# Altium schematic symbol library pporyzala-TI_Lighting.SchLib: 745 symbols (part 4 of 48)
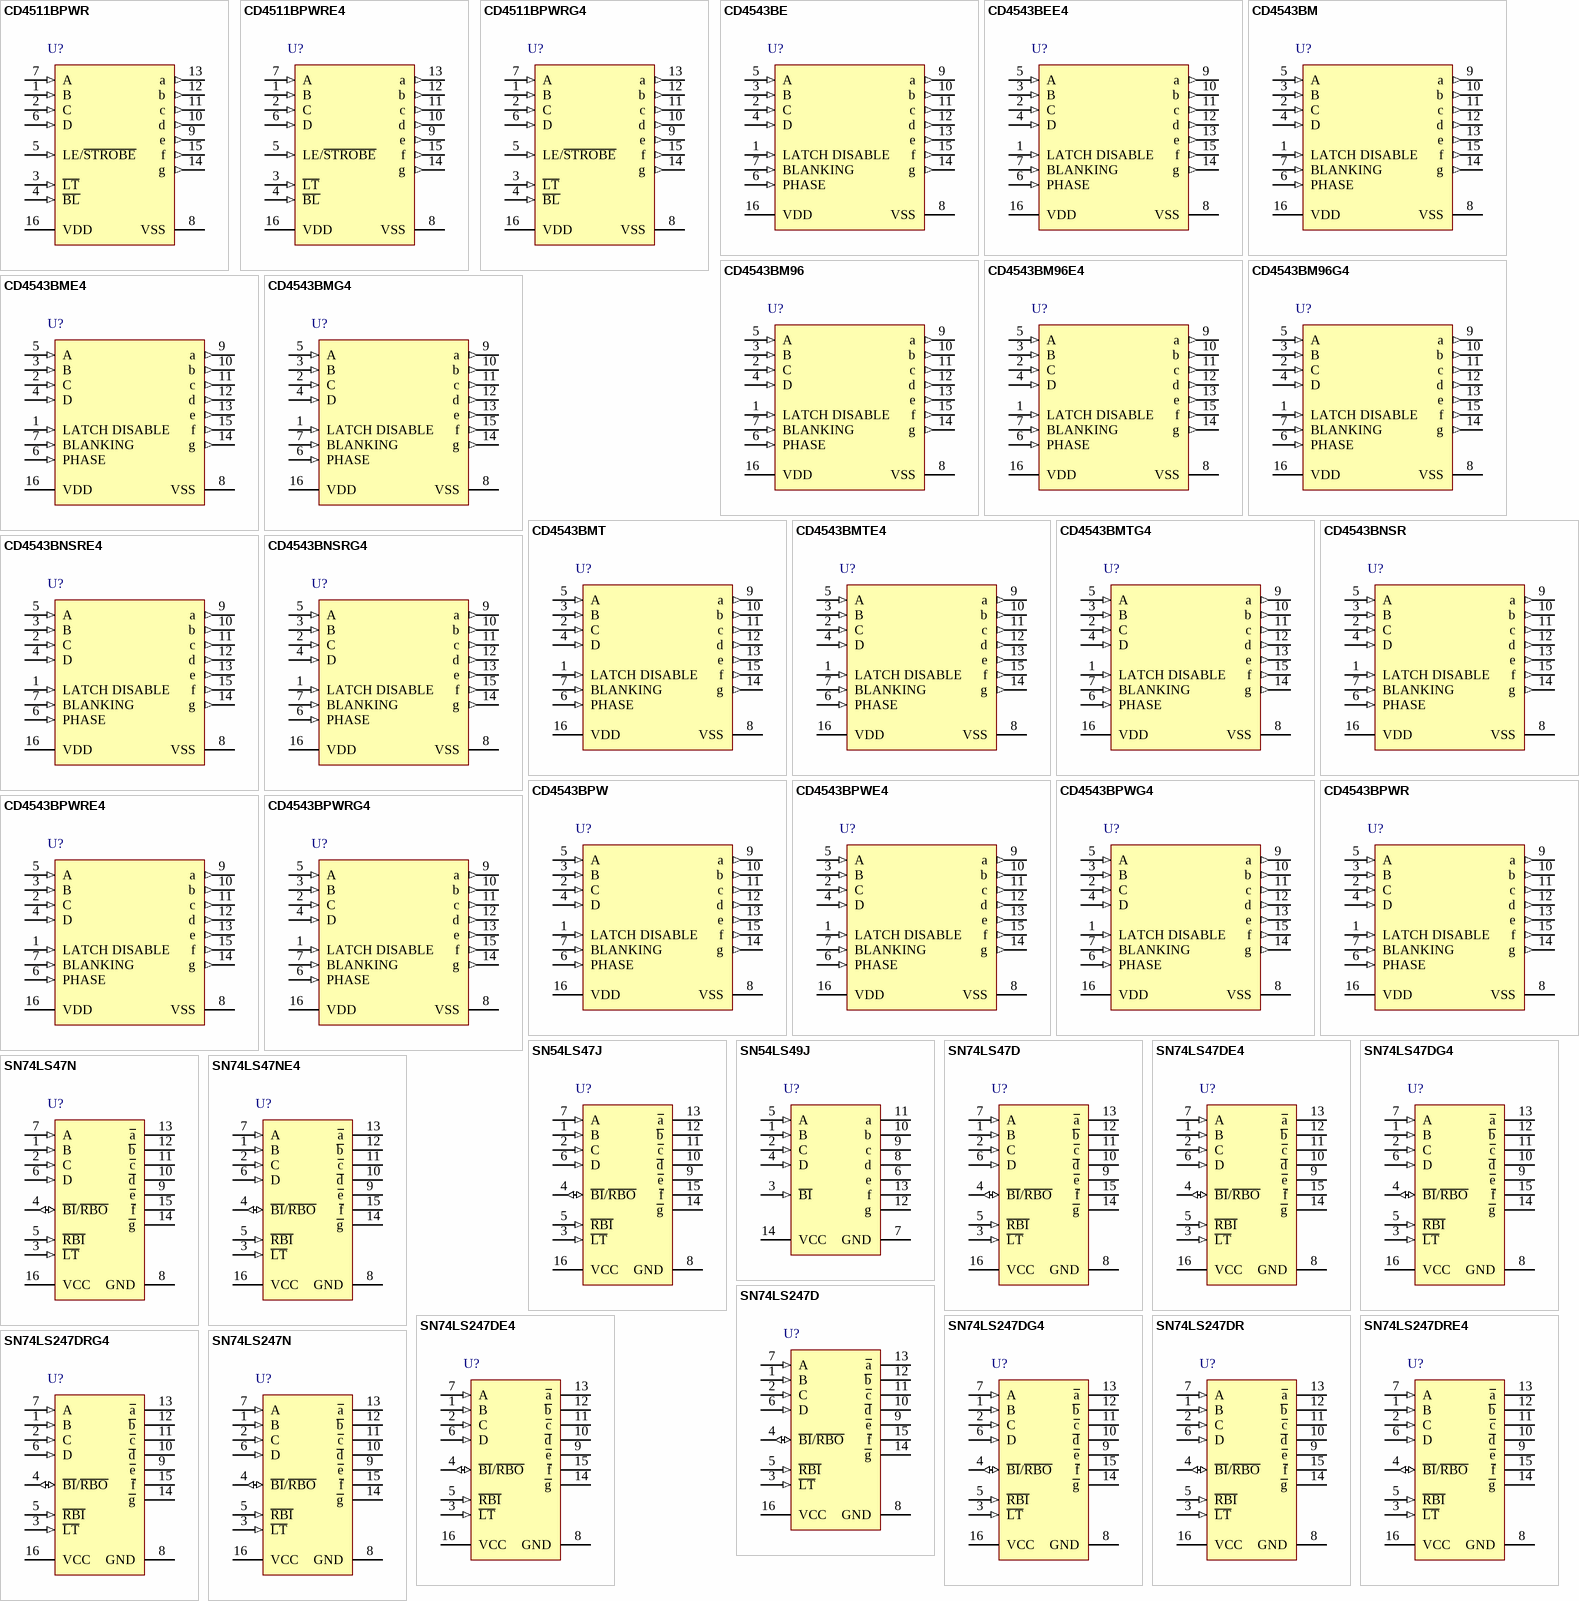
[diagram p34: symbols CD4511BPWR to SN74LS247N]

## SN74LS247DG4
designator U?
BCD-to-7-Segment Decoder / Driver, 4.75 to 5.25 V, 0 to 70 degC, 16-pin SOIC (D16), Green (RoHS & no Sb/Br); Manufacturer: Texas Instruments; PartNumber: SN74LS247DG4; Rating: Catalog; SubFamily: Discrete Segment LED Driver; Vin(Max)(V): 5.25; Vin(Min)(V): 4.75; DatasheetVersion: SDLS083; PackageVersion: 4040047-6/M; PackageReference: D16; PackageDescription: 16-Pin Plastic Small Outline, Body 9.90 x 3.90 mm, Pitch 1.27 mm; Supplier 1: Digi-Key; Supplier Part Number 1: SN74LS247DG4-ND; Supplier 2: Mouser; Supplier Part Number 2: 595-SN74LS247DG4; Eco-Plan: Green (RoHS & no Sb/Br); Mounting Technology: Surface Mount; Code_JEDEC: MS-012; ComponentLink1Description: Manufacturer URL; ComponentLink1URL: http://www.ti.com/; ComponentLink2Description: Datasheet; ComponentLink2URL: http://www.ti.com/general/docs/lit/getliterature.tsp?genericPartNumber=SN74LS247&fileType=pdf; ComponentLink3Description: Package Specification; ComponentLink3URL: http://www.ti.com/litv/pdf/mpds178g
footprint TI-D16_N (SOIC, 16-Leads, Body 9.9x3.9mm, Pitch 1.27mm, IPC Medium Density)
footprint TI-D16_L (SOIC, 16-Leads, Body 9.9x3.9mm, Pitch 1.27mm, IPC High Density)
footprint TI-D16_M (SOIC, 16-Leads, Body 9.9x3.9mm, Pitch 1.27mm, IPC Low Density)
pins: 1 B (in), 2 C (in), 3 ~{LT} (in), 4 ~{BI}/~{RBO} (io), 5 ~{RBI} (in), 6 D (in), 7 A (in), 8 GND (power), 9 ~{e} (oc), 10 ~{d} (oc), 11 ~{c} (oc), 12 ~{b} (oc), 13 ~{a} (oc), 14 ~{g} (oc), 15 ~{f} (oc), 16 VCC (power)

## SN74LS247DR
designator U?
BCD-to-7-Segment Decoder / Driver, 4.75 to 5.25 V, 0 to 70 degC, 16-pin SOIC (D16), Green (RoHS & no Sb/Br); Manufacturer: Texas Instruments; PartNumber: SN74LS247DR; Rating: Catalog; SubFamily: Discrete Segment LED Driver; Vin(Max)(V): 5.25; Vin(Min)(V): 4.75; DatasheetVersion: SDLS083; PackageVersion: 4040047-6/M; PackageReference: D16; PackageDescription: 16-Pin Plastic Small Outline, Body 9.90 x 3.90 mm, Pitch 1.27 mm; Supplier 1: Digi-Key; Supplier Part Number 1: SN74LS247DR-ND; Supplier 2: Newark; Supplier Part Number 2: 76C3754; Supplier 3: Mouser; Supplier Part Number 3: 595-SN74LS247DR; Eco-Plan: Green (RoHS & no Sb/Br); Mounting Technology: Surface Mount; Code_JEDEC: MS-012; ComponentLink1Description: Manufacturer URL; ComponentLink1URL: http://www.ti.com/; ComponentLink2Description: Datasheet; ComponentLink2URL: http://www.ti.com/general/docs/lit/getliterature.tsp?genericPartNumber=SN74LS247&fileType=pdf; ComponentLink3Description: Package Specification; ComponentLink3URL: http://www.ti.com/litv/pdf/mpds178g
footprint TI-D16_N (SOIC, 16-Leads, Body 9.9x3.9mm, Pitch 1.27mm, IPC Medium Density)
footprint TI-D16_L (SOIC, 16-Leads, Body 9.9x3.9mm, Pitch 1.27mm, IPC High Density)
footprint TI-D16_M (SOIC, 16-Leads, Body 9.9x3.9mm, Pitch 1.27mm, IPC Low Density)
pins: 1 B (in), 2 C (in), 3 ~{LT} (in), 4 ~{BI}/~{RBO} (io), 5 ~{RBI} (in), 6 D (in), 7 A (in), 8 GND (power), 9 ~{e} (oc), 10 ~{d} (oc), 11 ~{c} (oc), 12 ~{b} (oc), 13 ~{a} (oc), 14 ~{g} (oc), 15 ~{f} (oc), 16 VCC (power)

## SN74LS247DRE4
designator U?
BCD-to-7-Segment Decoder / Driver, 4.75 to 5.25 V, 0 to 70 degC, 16-pin SOIC (D16), Green (RoHS & no Sb/Br); Manufacturer: Texas Instruments; PartNumber: SN74LS247DRE4; Rating: Catalog; SubFamily: Discrete Segment LED Driver; Vin(Max)(V): 5.25; Vin(Min)(V): 4.75; DatasheetVersion: SDLS083; PackageVersion: 4040047-6/M; PackageReference: D16; PackageDescription: 16-Pin Plastic Small Outline, Body 9.90 x 3.90 mm, Pitch 1.27 mm; Supplier 1: Digi-Key; Supplier Part Number 1: SN74LS247DRE4-ND; Supplier 2: Mouser; Supplier Part Number 2: 595-SN74LS247DRE4; Eco-Plan: Green (RoHS & no Sb/Br); Mounting Technology: Surface Mount; Code_JEDEC: MS-012; ComponentLink1Description: Manufacturer URL; ComponentLink1URL: http://www.ti.com/; ComponentLink2Description: Datasheet; ComponentLink2URL: http://www.ti.com/general/docs/lit/getliterature.tsp?genericPartNumber=SN74LS247&fileType=pdf; ComponentLink3Description: Package Specification; ComponentLink3URL: http://www.ti.com/litv/pdf/mpds178g
footprint TI-D16_N (SOIC, 16-Leads, Body 9.9x3.9mm, Pitch 1.27mm, IPC Medium Density)
footprint TI-D16_L (SOIC, 16-Leads, Body 9.9x3.9mm, Pitch 1.27mm, IPC High Density)
footprint TI-D16_M (SOIC, 16-Leads, Body 9.9x3.9mm, Pitch 1.27mm, IPC Low Density)
pins: 1 B (in), 2 C (in), 3 ~{LT} (in), 4 ~{BI}/~{RBO} (io), 5 ~{RBI} (in), 6 D (in), 7 A (in), 8 GND (power), 9 ~{e} (oc), 10 ~{d} (oc), 11 ~{c} (oc), 12 ~{b} (oc), 13 ~{a} (oc), 14 ~{g} (oc), 15 ~{f} (oc), 16 VCC (power)

## SN74LS247DRG4
designator U?
BCD-to-7-Segment Decoder / Driver, 4.75 to 5.25 V, 0 to 70 degC, 16-pin SOIC (D16), Green (RoHS & no Sb/Br); Manufacturer: Texas Instruments; PartNumber: SN74LS247DRG4; Rating: Catalog; SubFamily: Discrete Segment LED Driver; Vin(Max)(V): 5.25; Vin(Min)(V): 4.75; DatasheetVersion: SDLS083; PackageVersion: 4040047-6/M; PackageReference: D16; PackageDescription: 16-Pin Plastic Small Outline, Body 9.90 x 3.90 mm, Pitch 1.27 mm; Supplier 1: Digi-Key; Supplier Part Number 1: SN74LS247DRG4-ND; Supplier 2: Mouser; Supplier Part Number 2: 595-SN74LS247DRG4; Eco-Plan: Green (RoHS & no Sb/Br); Mounting Technology: Surface Mount; Code_JEDEC: MS-012; ComponentLink1Description: Manufacturer URL; ComponentLink1URL: http://www.ti.com/; ComponentLink2Description: Datasheet; ComponentLink2URL: http://www.ti.com/general/docs/lit/getliterature.tsp?genericPartNumber=SN74LS247&fileType=pdf; ComponentLink3Description: Package Specification; ComponentLink3URL: http://www.ti.com/litv/pdf/mpds178g
footprint TI-D16_N (SOIC, 16-Leads, Body 9.9x3.9mm, Pitch 1.27mm, IPC Medium Density)
footprint TI-D16_L (SOIC, 16-Leads, Body 9.9x3.9mm, Pitch 1.27mm, IPC High Density)
footprint TI-D16_M (SOIC, 16-Leads, Body 9.9x3.9mm, Pitch 1.27mm, IPC Low Density)
pins: 1 B (in), 2 C (in), 3 ~{LT} (in), 4 ~{BI}/~{RBO} (io), 5 ~{RBI} (in), 6 D (in), 7 A (in), 8 GND (power), 9 ~{e} (oc), 10 ~{d} (oc), 11 ~{c} (oc), 12 ~{b} (oc), 13 ~{a} (oc), 14 ~{g} (oc), 15 ~{f} (oc), 16 VCC (power)

## SN74LS247N
designator U?
BCD-to-7-Segment Decoder / Driver, 4.75 to 5.25 V, 0 to 70 degC, 16-pin DIP (N16), Pb-Free (RoHS); Manufacturer: Texas Instruments; PartNumber: SN74LS247N; Rating: Catalog; SubFamily: Discrete Segment LED Driver; Vin(Max)(V): 5.25; Vin(Min)(V): 4.75; DatasheetVersion: SDLS083; PackageVersion: 4040049/E; PackageReference: N16; PackageDescription: 16-Pin Plastic In-Line, Body 19.305 x 6.35 mm, Pitch 2.54 mm; Supplier 1: Digi-Key; Supplier Part Number 1: 296-3679-5-ND; Supplier 2: Farnell; Supplier Part Number 2: 9592369; Supplier 3: Newark; Supplier Part Number 3: 72K9436; Supplier 4: Mouser; Supplier Part Number 4: 595-SN74LS247N; Eco-Plan: Pb-Free (RoHS); Mounting Technology: Through Hole; Code_JEDEC: MS-001; ComponentLink1Description: Manufacturer URL; ComponentLink1URL: http://www.ti.com/; ComponentLink2Description: Datasheet; ComponentLink2URL: http://www.ti.com/general/docs/lit/getliterature.tsp?genericPartNumber=SN74LS247&fileType=pdf; ComponentLink3Description: Package Specification; ComponentLink3URL: http://www.ti.com/litv/pdf/mpdi002c
footprint TI-N16 (DIP, 16-Leads, Body 19.305x6.35 mm, Pitch 2.54 mm)
pins: 1 B (in), 2 C (in), 3 ~{LT} (in), 4 ~{BI}/~{RBO} (io), 5 ~{RBI} (in), 6 D (in), 7 A (in), 8 GND (power), 9 ~{e} (oc), 10 ~{d} (oc), 11 ~{c} (oc), 12 ~{b} (oc), 13 ~{a} (oc), 14 ~{g} (oc), 15 ~{f} (oc), 16 VCC (power)

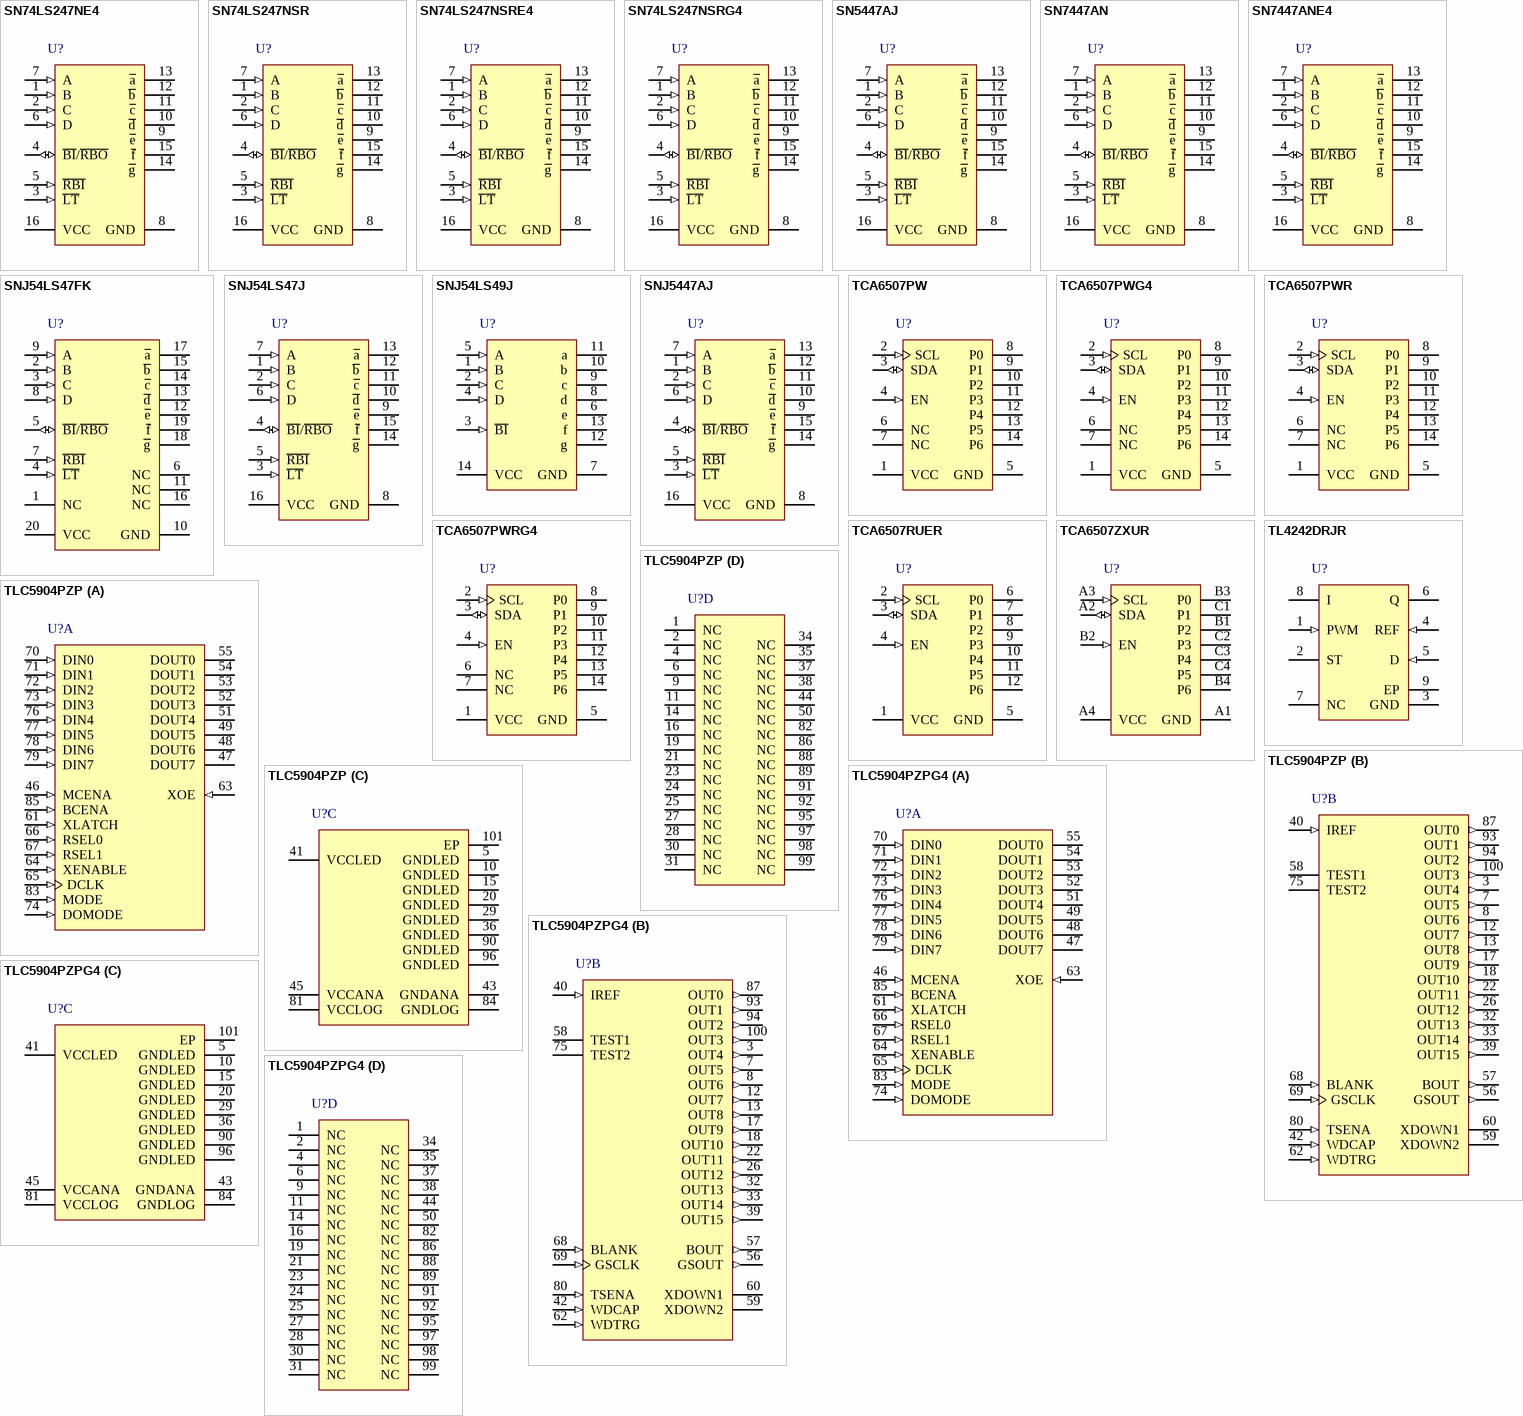
[diagram p3: symbols SN74LS247NE4 to TLC5904PZPG4]

## SN74LS247NE4
designator U?
BCD-to-7-Segment Decoder / Driver, 4.75 to 5.25 V, 0 to 70 degC, 16-pin DIP (N16), Pb-Free (RoHS); Manufacturer: Texas Instruments; PartNumber: SN74LS247NE4; Rating: Catalog; SubFamily: Discrete Segment LED Driver; Vin(Max)(V): 5.25; Vin(Min)(V): 4.75; DatasheetVersion: SDLS083; PackageVersion: 4040049/E; PackageReference: N16; PackageDescription: 16-Pin Plastic In-Line, Body 19.305 x 6.35 mm, Pitch 2.54 mm; Supplier 1: Digi-Key; Supplier Part Number 1: SN74LS247NE4-ND; Supplier 2: Newark; Supplier Part Number 2: 37K3073; Supplier 3: Mouser; Supplier Part Number 3: 595-SN74LS247NE4; Eco-Plan: Pb-Free (RoHS); Mounting Technology: Through Hole; Code_JEDEC: MS-001; ComponentLink1Description: Manufacturer URL; ComponentLink1URL: http://www.ti.com/; ComponentLink2Description: Datasheet; ComponentLink2URL: http://www.ti.com/general/docs/lit/getliterature.tsp?genericPartNumber=SN74LS247&fileType=pdf; ComponentLink3Description: Package Specification; ComponentLink3URL: http://www.ti.com/litv/pdf/mpdi002c
footprint TI-N16 (DIP, 16-Leads, Body 19.305x6.35 mm, Pitch 2.54 mm)
pins: 1 B (in), 2 C (in), 3 ~{LT} (in), 4 ~{BI}/~{RBO} (io), 5 ~{RBI} (in), 6 D (in), 7 A (in), 8 GND (power), 9 ~{e} (oc), 10 ~{d} (oc), 11 ~{c} (oc), 12 ~{b} (oc), 13 ~{a} (oc), 14 ~{g} (oc), 15 ~{f} (oc), 16 VCC (power)

## SN74LS247NSR
designator U?
BCD-to-7-Segment Decoder / Driver, 4.75 to 5.25 V, 0 to 70 degC, 16-pin SOP (NS16), Green (RoHS & no Sb/Br); Manufacturer: Texas Instruments; PartNumber: SN74LS247NSR; Rating: Catalog; SubFamily: Discrete Segment LED Driver; Vin(Max)(V): 5.25; Vin(Min)(V): 4.75; DatasheetVersion: SDLS083; PackageVersion: 4040062/C; PackageReference: NS16; PackageDescription: 16-Pin Plastic Small Outline, Body 10.20 x 5.30 mm, Pitch 1.27 mm; Supplier 1: Digi-Key; Supplier Part Number 1: 296-28943-2-ND; Supplier 2: Digi-Key; Supplier Part Number 2: 296-28943-1-ND; Supplier 3: Digi-Key; Supplier Part Number 3: 296-28943-6-ND; Supplier 4: Newark; Supplier Part Number 4: 76C3755; Supplier 5: Mouser; Supplier Part Number 5: 595-SN74LS247NSR; Eco-Plan: Green (RoHS & no Sb/Br); Mounting Technology: Surface Mount; ComponentLink1Description: Manufacturer URL; ComponentLink1URL: http://www.ti.com/; ComponentLink2Description: Datasheet; ComponentLink2URL: http://www.ti.com/general/docs/lit/getliterature.tsp?genericPartNumber=SN74LS247&fileType=pdf; ComponentLink3Description: Package Specification; ComponentLink3URL: http://www.ti.com/litv/pdf/msop002a
footprint TI-NS16_N (SOP, 16-Leads, Body 10.2x5.3mm, Pitch 1.27mm, IPC Medium Density)
footprint TI-NS16_L (SOP, 16-Leads, Body 10.2x5.3mm, Pitch 1.27mm, IPC High Density)
footprint TI-NS16_M (SOP, 16-Leads, Body 10.2x5.3mm, Pitch 1.27mm, IPC Low Density)
pins: 1 B (in), 2 C (in), 3 ~{LT} (in), 4 ~{BI}/~{RBO} (io), 5 ~{RBI} (in), 6 D (in), 7 A (in), 8 GND (power), 9 ~{e} (oc), 10 ~{d} (oc), 11 ~{c} (oc), 12 ~{b} (oc), 13 ~{a} (oc), 14 ~{g} (oc), 15 ~{f} (oc), 16 VCC (power)

## SN74LS247NSRE4
designator U?
BCD-to-7-Segment Decoder / Driver, 4.75 to 5.25 V, 0 to 70 degC, 16-pin SOP (NS16), Green (RoHS & no Sb/Br); Manufacturer: Texas Instruments; PartNumber: SN74LS247NSRE4; Rating: Catalog; SubFamily: Discrete Segment LED Driver; Vin(Max)(V): 5.25; Vin(Min)(V): 4.75; DatasheetVersion: SDLS083; PackageVersion: 4040062/C; PackageReference: NS16; PackageDescription: 16-Pin Plastic Small Outline, Body 10.20 x 5.30 mm, Pitch 1.27 mm; Supplier 1: Digi-Key; Supplier Part Number 1: SN74LS247NSRE4-ND; Supplier 2: Newark; Supplier Part Number 2: 37K3074; Supplier 3: Mouser; Supplier Part Number 3: 595-SN74LS247NSRE4; Eco-Plan: Green (RoHS & no Sb/Br); Mounting Technology: Surface Mount; ComponentLink1Description: Manufacturer URL; ComponentLink1URL: http://www.ti.com/; ComponentLink2Description: Datasheet; ComponentLink2URL: http://www.ti.com/general/docs/lit/getliterature.tsp?genericPartNumber=SN74LS247&fileType=pdf; ComponentLink3Description: Package Specification; ComponentLink3URL: http://www.ti.com/litv/pdf/msop002a
footprint TI-NS16_N (SOP, 16-Leads, Body 10.2x5.3mm, Pitch 1.27mm, IPC Medium Density)
footprint TI-NS16_L (SOP, 16-Leads, Body 10.2x5.3mm, Pitch 1.27mm, IPC High Density)
footprint TI-NS16_M (SOP, 16-Leads, Body 10.2x5.3mm, Pitch 1.27mm, IPC Low Density)
pins: 1 B (in), 2 C (in), 3 ~{LT} (in), 4 ~{BI}/~{RBO} (io), 5 ~{RBI} (in), 6 D (in), 7 A (in), 8 GND (power), 9 ~{e} (oc), 10 ~{d} (oc), 11 ~{c} (oc), 12 ~{b} (oc), 13 ~{a} (oc), 14 ~{g} (oc), 15 ~{f} (oc), 16 VCC (power)

## SN74LS247NSRG4
designator U?
BCD-to-7-Segment Decoder / Driver, 4.75 to 5.25 V, 0 to 70 degC, 16-pin SOP (NS16), Green (RoHS & no Sb/Br); Manufacturer: Texas Instruments; PartNumber: SN74LS247NSRG4; Rating: Catalog; SubFamily: Discrete Segment LED Driver; Vin(Max)(V): 5.25; Vin(Min)(V): 4.75; DatasheetVersion: SDLS083; PackageVersion: 4040062/C; PackageReference: NS16; PackageDescription: 16-Pin Plastic Small Outline, Body 10.20 x 5.30 mm, Pitch 1.27 mm; Supplier 1: Digi-Key; Supplier Part Number 1: SN74LS247NSRG4-ND; Supplier 2: Newark; Supplier Part Number 2: 46M8209; Supplier 3: Mouser; Supplier Part Number 3: 595-SN74LS247NSRG4; Eco-Plan: Green (RoHS & no Sb/Br); Mounting Technology: Surface Mount; ComponentLink1Description: Manufacturer URL; ComponentLink1URL: http://www.ti.com/; ComponentLink2Description: Datasheet; ComponentLink2URL: http://www.ti.com/general/docs/lit/getliterature.tsp?genericPartNumber=SN74LS247&fileType=pdf; ComponentLink3Description: Package Specification; ComponentLink3URL: http://www.ti.com/litv/pdf/msop002a
footprint TI-NS16_N (SOP, 16-Leads, Body 10.2x5.3mm, Pitch 1.27mm, IPC Medium Density)
footprint TI-NS16_L (SOP, 16-Leads, Body 10.2x5.3mm, Pitch 1.27mm, IPC High Density)
footprint TI-NS16_M (SOP, 16-Leads, Body 10.2x5.3mm, Pitch 1.27mm, IPC Low Density)
pins: 1 B (in), 2 C (in), 3 ~{LT} (in), 4 ~{BI}/~{RBO} (io), 5 ~{RBI} (in), 6 D (in), 7 A (in), 8 GND (power), 9 ~{e} (oc), 10 ~{d} (oc), 11 ~{c} (oc), 12 ~{b} (oc), 13 ~{a} (oc), 14 ~{g} (oc), 15 ~{f} (oc), 16 VCC (power)

## SN5447AJ
designator U?
BCD-to-7-Segment Decoder / Driver, 4.5 to 5.5 V, -55 to 125 degC, 16-pin DIP (J16); Manufacturer: Texas Instruments; PartNumber: SN5447AJ; Rating: Military; SubFamily: Discrete Segment LED Driver; Vin(Max)(V): 5.5; Vin(Min)(V): 4.5; DatasheetVersion: SDLS111; PackageVersion: 4040083/F; PackageReference: J16; PackageDescription: 16-pin, Ceramic, Glass In-Line, Row Spacing 7.62 mm, Pitch 2.54 mm; Mounting Technology: Through Hole; ComponentLink1Description: Manufacturer URL; ComponentLink1URL: http://www.ti.com/; ComponentLink2Description: Datasheet; ComponentLink2URL: http://www.ti.com/general/docs/lit/getliterature.tsp?genericPartNumber=SN5447A&fileType=pdf; ComponentLink3Description: Package Specification; ComponentLink3URL: http://www.ti.com/lit/ds/symlink/uc1543.pdf
footprint TI-J16 (DIP, 16-Leads, Body 21.34x6.92 mm, Pitch 2.54 mm)
pins: 1 B (in), 2 C (in), 3 ~{LT} (in), 4 ~{BI}/~{RBO} (io), 5 ~{RBI} (in), 6 D (in), 7 A (in), 8 GND (power), 9 ~{e} (oc), 10 ~{d} (oc), 11 ~{c} (oc), 12 ~{b} (oc), 13 ~{a} (oc), 14 ~{g} (oc), 15 ~{f} (oc), 16 VCC (power)

## SN7447AN
designator U?
BCD-to-7-Segment Decoder / Driver, 4.75 to 5.25 V, 0 to 70 degC, 16-pin DIP (N16), Pb-Free (RoHS); Manufacturer: Texas Instruments; PartNumber: SN7447AN; SubFamily: Discrete Segment LED Driver; Vin(Max)(V): 5.25; Vin(Min)(V): 4.75; DatasheetVersion: SDLS111; PackageVersion: 4040049/E; PackageReference: N16; PackageDescription: 16-Pin Plastic In-Line, Body 19.305 x 6.35 mm, Pitch 2.54 mm; Supplier 1: Digi-Key; Supplier Part Number 1: 296-33612-5-ND; Supplier 2: Farnell; Supplier Part Number 2: 9590080; Supplier 3: Newark; Supplier Part Number 3: 60K6914; Supplier 4: Mouser; Supplier Part Number 4: 595-SN7447AN; Eco-Plan: Pb-Free (RoHS); Mounting Technology: Through Hole; Code_JEDEC: MS-001; ComponentLink1Description: Manufacturer URL; ComponentLink1URL: http://www.ti.com/; ComponentLink2Description: Datasheet; ComponentLink2URL: http://www.ti.com/general/docs/lit/getliterature.tsp?genericPartNumber=SN7447A&fileType=pdf; ComponentLink3Description: Package Specification; ComponentLink3URL: http://www.ti.com/litv/pdf/mpdi002c
footprint TI-N16 (DIP, 16-Leads, Body 19.305x6.35 mm, Pitch 2.54 mm)
pins: 1 B (in), 2 C (in), 3 ~{LT} (in), 4 ~{BI}/~{RBO} (io), 5 ~{RBI} (in), 6 D (in), 7 A (in), 8 GND (power), 9 ~{e} (oc), 10 ~{d} (oc), 11 ~{c} (oc), 12 ~{b} (oc), 13 ~{a} (oc), 14 ~{g} (oc), 15 ~{f} (oc), 16 VCC (power)

## SN7447ANE4
designator U?
BCD-to-7-Segment Decoder / Driver, 4.75 to 5.25 V, 0 to 70 degC, 16-pin DIP (N16), Pb-Free (RoHS); Manufacturer: Texas Instruments; PartNumber: SN7447ANE4; SubFamily: Discrete Segment LED Driver; Vin(Max)(V): 5.25; Vin(Min)(V): 4.75; DatasheetVersion: SDLS111; PackageVersion: 4040049/E; PackageReference: N16; PackageDescription: 16-Pin Plastic In-Line, Body 19.305 x 6.35 mm, Pitch 2.54 mm; Supplier 1: Digi-Key; Supplier Part Number 1: SN7447ANE4-ND; Supplier 2: Newark; Supplier Part Number 2: 37K3913; Supplier 3: Mouser; Supplier Part Number 3: 595-SN7447ANE4; Eco-Plan: Pb-Free (RoHS); Mounting Technology: Through Hole; Code_JEDEC: MS-001; ComponentLink1Description: Manufacturer URL; ComponentLink1URL: http://www.ti.com/; ComponentLink2Description: Datasheet; ComponentLink2URL: http://www.ti.com/general/docs/lit/getliterature.tsp?genericPartNumber=SN7447A&fileType=pdf; ComponentLink3Description: Package Specification; ComponentLink3URL: http://www.ti.com/litv/pdf/mpdi002c
footprint TI-N16 (DIP, 16-Leads, Body 19.305x6.35 mm, Pitch 2.54 mm)
pins: 1 B (in), 2 C (in), 3 ~{LT} (in), 4 ~{BI}/~{RBO} (io), 5 ~{RBI} (in), 6 D (in), 7 A (in), 8 GND (power), 9 ~{e} (oc), 10 ~{d} (oc), 11 ~{c} (oc), 12 ~{b} (oc), 13 ~{a} (oc), 14 ~{g} (oc), 15 ~{f} (oc), 16 VCC (power)

## SNJ54LS47FK
designator U?
BCD-to-7-Segment Decoder / Driver, 4.5 to 5.5 V, -55 to 125 degC, 20-pin LCC (FK20); Manufacturer: Texas Instruments; PartNumber: SNJ54LS47FK; Rating: Military; SubFamily: Discrete Segment LED Driver; Vin(Max)(V): 5.5; Vin(Min)(V): 4.5; DatasheetVersion: SDLS111; PackageVersion: 4040140/D; PackageReference: FK20; PackageDescription: 20-Pin Ceramic, Metal Chip Carrier, Body 8.89 x 8.89 mm, Pitch 1.27 mm; Mounting Technology: Surface Mount; Code_JEDEC: MS-004; ComponentLink1Description: Manufacturer URL; ComponentLink1URL: http://www.ti.com/; ComponentLink2Description: Datasheet; ComponentLink2URL: http://www.ti.com/general/docs/lit/getliterature.tsp?genericPartNumber=SN54LS47&fileType=pdf; ComponentLink3Description: Package Specification; ComponentLink3URL: http://www.ti.com/litv/pdf/mlcc006d
footprint TI-FK20_N (Leadless Chip Carrier, 20-Leads, Body 8.9x8.9mm, Pitch 1.27mm, IPC Medium Density)
footprint TI-FK20_L (Leadless Chip Carrier, 20-Leads, Body 8.9x8.9mm, Pitch 1.27mm, IPC High Density)
footprint TI-FK20_M (Leadless Chip Carrier, 20-Leads, Body 8.9x8.9mm, Pitch 1.27mm, IPC Low Density)
pins: 1 NC, 2 B (in), 3 C (in), 4 ~{LT} (in), 5 ~{BI}/~{RBO} (io), 6 NC, 7 ~{RBI} (in), 8 D (in), 9 A (in), 10 GND (power), 11 NC, 12 ~{e} (oc), 13 ~{d} (oc), 14 ~{c} (oc), 15 ~{b} (oc), 16 NC, 17 ~{a} (oc), 18 ~{g} (oc), 19 ~{f} (oc), 20 VCC (power)

## SNJ54LS47J
designator U?
BCD-to-7-Segment Decoder / Driver, 4.5 to 5.5 V, -55 to 125 degC, 16-pin DIP (J16); Manufacturer: Texas Instruments; PartNumber: SNJ54LS47J; Rating: Military; SubFamily: Discrete Segment LED Driver; Vin(Max)(V): 5.5; Vin(Min)(V): 4.5; DatasheetVersion: SDLS111; PackageVersion: 4040083/F; PackageReference: J16; PackageDescription: 16-pin, Ceramic, Glass In-Line, Row Spacing 7.62 mm, Pitch 2.54 mm; Mounting Technology: Through Hole; ComponentLink1Description: Manufacturer URL; ComponentLink1URL: http://www.ti.com/; ComponentLink2Description: Datasheet; ComponentLink2URL: http://www.ti.com/general/docs/lit/getliterature.tsp?genericPartNumber=SN54LS47&fileType=pdf; ComponentLink3Description: Package Specification; ComponentLink3URL: http://www.ti.com/lit/ds/symlink/uc1543.pdf
footprint TI-J16 (DIP, 16-Leads, Body 21.34x6.92 mm, Pitch 2.54 mm)
pins: 1 B (in), 2 C (in), 3 ~{LT} (in), 4 ~{BI}/~{RBO} (io), 5 ~{RBI} (in), 6 D (in), 7 A (in), 8 GND (power), 9 ~{e} (oc), 10 ~{d} (oc), 11 ~{c} (oc), 12 ~{b} (oc), 13 ~{a} (oc), 14 ~{g} (oc), 15 ~{f} (oc), 16 VCC (power)

## SNJ54LS49J
designator U?
BCD-to-7-Segment Decoder / Driver with Open Collector Output, 4.5 to 5.5 V, -55 to 125 degC, 14-pin DIP (J14); Manufacturer: Texas Instruments; PartNumber: SNJ54LS49J; SubFamily: Discrete Segment LED Driver; Vin(Max)(V): 5.5; Vin(Min)(V): 4.5; DatasheetVersion: SDLS111; PackageVersion: 4040083/F; PackageReference: J14; PackageDescription: 14-Pin Ceramic, Glass In-Line, Row Spacing 7.62 mm, Pitch 2.54 mm; Mounting Technology: Through Hole; ComponentLink1Description: Manufacturer URL; ComponentLink1URL: http://www.ti.com/; ComponentLink2Description: Datasheet; ComponentLink2URL: http://www.ti.com/general/docs/lit/getliterature.tsp?genericPartNumber=SN54LS49&fileType=pdf; ComponentLink3Description: Package Specification; ComponentLink3URL: http://www.ti.com/litv/pdf/mcer002d
footprint TI-J14 (DIP, 14-Leads, Body 19.94x6.92mm, Row Spacing 7.62 mm, Pitch 2.54mm)
pins: 1 B (in), 2 C (in), 3 ~{BI} (in), 4 D (in), 5 A (in), 6 e (oc), 7 GND (power), 8 d (oc), 9 c (oc), 10 b (oc), 11 a (oc), 12 g (oc), 13 f (oc), 14 VCC (power)

## SNJ5447AJ
designator U?
BCD-to-7-Segment Decoder / Driver, 4.5 to 5.5 V, -55 to 125 degC, 16-pin DIP (J16); Manufacturer: Texas Instruments; PartNumber: SNJ5447AJ; Rating: Military; SubFamily: Discrete Segment LED Driver; Vin(Max)(V): 5.5; Vin(Min)(V): 4.5; DatasheetVersion: SDLS111; PackageVersion: 4040083/F; PackageReference: J16; PackageDescription: 16-pin, Ceramic, Glass In-Line, Row Spacing 7.62 mm, Pitch 2.54 mm; Mounting Technology: Through Hole; ComponentLink1Description: Manufacturer URL; ComponentLink1URL: http://www.ti.com/; ComponentLink2Description: Datasheet; ComponentLink2URL: http://www.ti.com/general/docs/lit/getliterature.tsp?genericPartNumber=SN5447A&fileType=pdf; ComponentLink3Description: Package Specification; ComponentLink3URL: http://www.ti.com/lit/ds/symlink/uc1543.pdf
footprint TI-J16 (DIP, 16-Leads, Body 21.34x6.92 mm, Pitch 2.54 mm)
pins: 1 B (in), 2 C (in), 3 ~{LT} (in), 4 ~{BI}/~{RBO} (io), 5 ~{RBI} (in), 6 D (in), 7 A (in), 8 GND (power), 9 ~{e} (oc), 10 ~{d} (oc), 11 ~{c} (oc), 12 ~{b} (oc), 13 ~{a} (oc), 14 ~{g} (oc), 15 ~{f} (oc), 16 VCC (power)

## TCA6507PW
designator U?
Low-Voltage 7-Bit I2C and SMBus LED Driver with Intensity Control and Shutdown, 1.65 to 3.6 V, -40 to 85 degC, 14-pin SOP (PW14), Green (RoHS & no Sb/Br); Manufacturer: Texas Instruments; PartNumber: TCA6507PW; Rating: Catalog; SubFamily: I2C Special Function; DatasheetVersion: SCPS164B; PackageVersion: 4040064-3/G; PackageReference: PW14; PackageDescription: 14-Pin Plastic Small Outline, Body 5 x 4.4 mm, 0.65 mm Pitch; Supplier 1: Digi-Key; Supplier Part Number 1: TCA6507PW-ND; Supplier 2: Farnell; Supplier Part Number 2: 1647813; Supplier 3: Newark; Supplier Part Number 3: 54M7301; Supplier 4: Mouser; Supplier Part Number 4: 595-TCA6507PW; Eco-Plan: Green (RoHS & no Sb/Br); Mounting Technology: Surface Mount; Code_JEDEC: MO-153; ComponentLink1Description: Manufacturer URL; ComponentLink1URL: http://www.ti.com/; ComponentLink2Description: Datasheet; ComponentLink2URL: http://www.ti.com/general/docs/lit/getliterature.tsp?genericPartNumber=TCA6507&fileType=pdf; ComponentLink3Description: Package Specification; ComponentLink3URL: http://www.ti.com/litv/pdf/mpds360
footprint TI-PW14_N (SOP, 14-Leads, Body 5x4.4mm, Pitch 0.65mm, IPC Medium Density)
footprint TI-PW14_L (SOP, 14-Leads, Body 5x4.4mm, Pitch 0.65mm, IPC High Density)
footprint TI-PW14_M (SOP, 14-Leads, Body 5x4.4mm, Pitch 0.65mm, IPC Low Density)
pins: 1 VCC (power) "Supply voltage of I2C registers, oscillator and control logic. Connect directly to CC VCC of the external I2C master. Provides voltage-level translation.", 2 SCL (in) "Serial clock bus. Connect to VCC through a pullup resistor.", 3 SDA (io) "Serial data bus. Connect to VCC through a pullup resistor.", 4 EN (in) "Enable input. If set to low, it puts the TCA6507 in shutdown mode and resets the internal registers and I2C/SMBus state machine to their default states", 5 GND (power) "Ground", 6 NC, 7 NC, 8 P0 (hiz) "P-port output 0. Open-drain design structure.", 9 P1 (hiz) "P-port output 1. Open-drain design structure.", 10 P2 (hiz) "P-port output 2. Open-drain design structure.", 11 P3 (hiz) "P-port output 3. Open-drain design structure.", 12 P4 (hiz) "P-port output 4. Open-drain design structure.", 13 P5 (hiz) "P-port output 5. Open-drain design structure.", 14 P6 (hiz) "P-port output 6. Open-drain design structure."

## TCA6507PWG4
designator U?
Low-Voltage 7-Bit I2C and SMBus LED Driver with Intensity Control and Shutdown, 1.65 to 3.6 V, -40 to 85 degC, 14-pin SOP (PW14), Green (RoHS & no Sb/Br); Manufacturer: Texas Instruments; PartNumber: TCA6507PWG4; Rating: Catalog; SubFamily: I2C Special Function; DatasheetVersion: SCPS164B; PackageVersion: 4040064-3/G; PackageReference: PW14; PackageDescription: 14-Pin Plastic Small Outline, Body 5 x 4.4 mm, 0.65 mm Pitch; Supplier 1: Digi-Key; Supplier Part Number 1: TCA6507PWG4-ND; Supplier 2: Mouser; Supplier Part Number 2: 595-TCA6507PWG4; Eco-Plan: Green (RoHS & no Sb/Br); Mounting Technology: Surface Mount; Code_JEDEC: MO-153; ComponentLink1Description: Manufacturer URL; ComponentLink1URL: http://www.ti.com/; ComponentLink2Description: Datasheet; ComponentLink2URL: http://www.ti.com/general/docs/lit/getliterature.tsp?genericPartNumber=TCA6507&fileType=pdf; ComponentLink3Description: Package Specification; ComponentLink3URL: http://www.ti.com/litv/pdf/mpds360
footprint TI-PW14_N (SOP, 14-Leads, Body 5x4.4mm, Pitch 0.65mm, IPC Medium Density)
footprint TI-PW14_L (SOP, 14-Leads, Body 5x4.4mm, Pitch 0.65mm, IPC High Density)
footprint TI-PW14_M (SOP, 14-Leads, Body 5x4.4mm, Pitch 0.65mm, IPC Low Density)
pins: 1 VCC (power) "Supply voltage of I2C registers, oscillator and control logic. Connect directly to CC VCC of the external I2C master. Provides voltage-level translation.", 2 SCL (in) "Serial clock bus. Connect to VCC through a pullup resistor.", 3 SDA (io) "Serial data bus. Connect to VCC through a pullup resistor.", 4 EN (in) "Enable input. If set to low, it puts the TCA6507 in shutdown mode and resets the internal registers and I2C/SMBus state machine to their default states", 5 GND (power) "Ground", 6 NC, 7 NC, 8 P0 (hiz) "P-port output 0. Open-drain design structure.", 9 P1 (hiz) "P-port output 1. Open-drain design structure.", 10 P2 (hiz) "P-port output 2. Open-drain design structure.", 11 P3 (hiz) "P-port output 3. Open-drain design structure.", 12 P4 (hiz) "P-port output 4. Open-drain design structure.", 13 P5 (hiz) "P-port output 5. Open-drain design structure.", 14 P6 (hiz) "P-port output 6. Open-drain design structure."

## TCA6507PWR
designator U?
Low-Voltage 7-Bit I2C and SMBus LED Driver with Intensity Control and Shutdown, 1.65 to 3.6 V, -40 to 85 degC, 14-pin SOP (PW14), Green (RoHS & no Sb/Br); Manufacturer: Texas Instruments; PartNumber: TCA6507PWR; Rating: Catalog; SubFamily: I2C Special Function; DatasheetVersion: SCPS164B; PackageVersion: 4040064-3/G; PackageReference: PW14; PackageDescription: 14-Pin Plastic Small Outline, Body 5 x 4.4 mm, 0.65 mm Pitch; Supplier 1: Digi-Key; Supplier Part Number 1: 296-22777-2-ND; Supplier 2: Digi-Key; Supplier Part Number 2: 296-22777-1-ND; Supplier 3: Digi-Key; Supplier Part Number 3: 296-22777-6-ND; Supplier 4: Newark; Supplier Part Number 4: 54M7302; Supplier 5: Mouser; Supplier Part Number 5: 595-TCA6507PWR; Eco-Plan: Green (RoHS & no Sb/Br); Mounting Technology: Surface Mount; Code_JEDEC: MO-153; ComponentLink1Description: Manufacturer URL; ComponentLink1URL: http://www.ti.com/; ComponentLink2Description: Datasheet; ComponentLink2URL: http://www.ti.com/general/docs/lit/getliterature.tsp?genericPartNumber=TCA6507&fileType=pdf; ComponentLink3Description: Package Specification; ComponentLink3URL: http://www.ti.com/litv/pdf/mpds360
footprint TI-PW14_N (SOP, 14-Leads, Body 5x4.4mm, Pitch 0.65mm, IPC Medium Density)
footprint TI-PW14_L (SOP, 14-Leads, Body 5x4.4mm, Pitch 0.65mm, IPC High Density)
footprint TI-PW14_M (SOP, 14-Leads, Body 5x4.4mm, Pitch 0.65mm, IPC Low Density)
pins: 1 VCC (power) "Supply voltage of I2C registers, oscillator and control logic. Connect directly to CC VCC of the external I2C master. Provides voltage-level translation.", 2 SCL (in) "Serial clock bus. Connect to VCC through a pullup resistor.", 3 SDA (io) "Serial data bus. Connect to VCC through a pullup resistor.", 4 EN (in) "Enable input. If set to low, it puts the TCA6507 in shutdown mode and resets the internal registers and I2C/SMBus state machine to their default states", 5 GND (power) "Ground", 6 NC, 7 NC, 8 P0 (hiz) "P-port output 0. Open-drain design structure.", 9 P1 (hiz) "P-port output 1. Open-drain design structure.", 10 P2 (hiz) "P-port output 2. Open-drain design structure.", 11 P3 (hiz) "P-port output 3. Open-drain design structure.", 12 P4 (hiz) "P-port output 4. Open-drain design structure.", 13 P5 (hiz) "P-port output 5. Open-drain design structure.", 14 P6 (hiz) "P-port output 6. Open-drain design structure."

## TCA6507PWRG4
designator U?
Low-Voltage 7-Bit I2C and SMBus LED Driver with Intensity Control and Shutdown, 1.65 to 3.6 V, -40 to 85 degC, 14-pin SOP (PW14), Green (RoHS & no Sb/Br); Manufacturer: Texas Instruments; PartNumber: TCA6507PWRG4; Rating: Catalog; SubFamily: I2C Special Function; DatasheetVersion: SCPS164B; PackageVersion: 4040064-3/G; PackageReference: PW14; PackageDescription: 14-Pin Plastic Small Outline, Body 5 x 4.4 mm, 0.65 mm Pitch; Supplier 1: Digi-Key; Supplier Part Number 1: TCA6507PWRG4-ND; Supplier 2: Mouser; Supplier Part Number 2: 595-TCA6507PWRG4; Eco-Plan: Green (RoHS & no Sb/Br); Mounting Technology: Surface Mount; Code_JEDEC: MO-153; ComponentLink1Description: Manufacturer URL; ComponentLink1URL: http://www.ti.com/; ComponentLink2Description: Datasheet; ComponentLink2URL: http://www.ti.com/general/docs/lit/getliterature.tsp?genericPartNumber=TCA6507&fileType=pdf; ComponentLink3Description: Package Specification; ComponentLink3URL: http://www.ti.com/litv/pdf/mpds360
footprint TI-PW14_N (SOP, 14-Leads, Body 5x4.4mm, Pitch 0.65mm, IPC Medium Density)
footprint TI-PW14_L (SOP, 14-Leads, Body 5x4.4mm, Pitch 0.65mm, IPC High Density)
footprint TI-PW14_M (SOP, 14-Leads, Body 5x4.4mm, Pitch 0.65mm, IPC Low Density)
pins: 1 VCC (power) "Supply voltage of I2C registers, oscillator and control logic. Connect directly to CC VCC of the external I2C master. Provides voltage-level translation.", 2 SCL (in) "Serial clock bus. Connect to VCC through a pullup resistor.", 3 SDA (io) "Serial data bus. Connect to VCC through a pullup resistor.", 4 EN (in) "Enable input. If set to low, it puts the TCA6507 in shutdown mode and resets the internal registers and I2C/SMBus state machine to their default states", 5 GND (power) "Ground", 6 NC, 7 NC, 8 P0 (hiz) "P-port output 0. Open-drain design structure.", 9 P1 (hiz) "P-port output 1. Open-drain design structure.", 10 P2 (hiz) "P-port output 2. Open-drain design structure.", 11 P3 (hiz) "P-port output 3. Open-drain design structure.", 12 P4 (hiz) "P-port output 4. Open-drain design structure.", 13 P5 (hiz) "P-port output 5. Open-drain design structure.", 14 P6 (hiz) "P-port output 6. Open-drain design structure."

## TCA6507RUER
designator U?
Low-Voltage 7-Bit I2C and SMBus LED Driver With Intensity Control and Shutdown, 12-pin QFN (RUE12), Green (RoHS & no Sb/Br); Manufacturer: Texas Instruments; PartNumber: TCA6507RUER; Rating: Catalog; SubFamily: I2C Special Function; DatasheetVersion: SCPS164B; PackageVersion: 4208463/C; PackageReference: RUE12; PackageDescription: 12-Lead, Plastic Flat Pack, Body Size 1.4 x 2 mm, Pitch 0.4 mm; Supplier 1: Digi-Key; Supplier Part Number 1: 296-23111-2-ND; Supplier 2: Digi-Key; Supplier Part Number 2: 296-23111-1-ND; Supplier 3: Digi-Key; Supplier Part Number 3: 296-23111-6-ND; Supplier 4: Newark; Supplier Part Number 4: 73M7826; Supplier 5: Mouser; Supplier Part Number 5: 595-TCA6507RUER; Eco-Plan: Green (RoHS & no Sb/Br); Mounting Technology: Surface Mount; Code_JEDEC: MO-288; ComponentLink1Description: Manufacturer URL; ComponentLink1URL: http://www.ti.com/; ComponentLink2Description: Datasheet; ComponentLink2URL: http://www.ti.com/general/docs/lit/getliterature.tsp?genericPartNumber=TCA6507&fileType=pdf; ComponentLink3Description: Package Specification; ComponentLink3URL: http://www.ti.com/litv/pdf/mpqf214b
footprint TI-RUE12_V (QFN, 12-Leads, Body 2x1.4mm, Pitch 0.4mm)
pins: 1 VCC (power) "Supply voltage of I2C registers, oscillator and control logic. Connect directly to VCC of the external I2C master. Provides voltage-level translation.", 2 SCL (in) "Serial clock bus. Connect to VCC through a pullup resistor.", 3 SDA (io) "Serial data bus. Connect to VCC through a pullup resistor.", 4 EN (in) "Enable input. If set to low, it puts the TCA6507 in shutdown mode and resets the internal registers and I2C/SMBus state machine to their default states", 5 GND (power) "Ground", 6 P0 (hiz) "P-port output 0. Open-drain design structure.", 7 P1 (hiz) "P-port output 1. Open-drain design structure.", 8 P2 (hiz) "P-port output 2. Open-drain design structure.", 9 P3 (hiz) "P-port output 3. Open-drain design structure.", 10 P4 (hiz) "P-port output 4. Open-drain design structure.", 11 P5 (hiz) "P-port output 5. Open-drain design structure.", 12 P6 (hiz) "P-port output 6. Open-drain design structure."

## TCA6507ZXUR
designator U?
Low-Voltage 7-Bit I2C and SMBus LED Driver With Intensity Control and Shutdown, 12-pin BGA (ZXU12), Green (RoHS & no Sb/Br); Manufacturer: Texas Instruments; PartNumber: TCA6507ZXUR; Rating: Catalog; SubFamily: I2C Special Function; DatasheetVersion: SCPS164B; PackageVersion: 4207009/B; PackageReference: ZXU12; PackageDescription: 12-Ball, Plastic Grid Array, Body Size 2 x 2.5 mm, Pitch 0.5 mm; Supplier 1: Digi-Key; Supplier Part Number 1: 296-22778-2-ND; Supplier 2: Digi-Key; Supplier Part Number 2: 296-22778-1-ND; Supplier 3: Digi-Key; Supplier Part Number 3: 296-22778-6-ND; Supplier 4: Newark; Supplier Part Number 4: 54M7303; Supplier 5: Mouser; Supplier Part Number 5: 595-TCA6507ZXUR; Eco-Plan: Green (RoHS & no Sb/Br); Mounting Technology: Surface Mount; ComponentLink1Description: Manufacturer URL; ComponentLink1URL: http://www.ti.com/; ComponentLink2Description: Datasheet; ComponentLink2URL: http://www.ti.com/general/docs/lit/getliterature.tsp?genericPartNumber=TCA6507&fileType=pdf; ComponentLink3Description: Package Specification; ComponentLink3URL: http://www.ti.com/litv/pdf/mpbg618a
footprint TI-ZXU12 (BGA, 12-Balls, Body 2.5x2mm, Pitch 0.5mm)
pins: A1 GND (power) "Ground", A2 SDA (io) "Serial data bus. Connect to VCC through a pullup resistor.", A3 SCL (in) "Serial clock bus. Connect to VCC through a pullup resistor.", A4 VCC (power) "Supply voltage of I2C registers, oscillator and control logic. Connect directly to VCC of the external I2C master. Provides voltage-level translation.", B1 P2 (hiz) "P-port output 2. Open-drain design structure.", B2 EN (in) "Enable input. If set to low, it puts the TCA6507 in shutdown mode and resets the internal registers and I2C/SMBus state machine to their default states", B3 P0 (hiz) "P-port output 0. Open-drain design structure.", B4 P6 (hiz) "P-port output 6. Open-drain design structure.", C1 P1 (hiz) "P-port output 1. Open-drain design structure.", C2 P3 (hiz) "P-port output 3. Open-drain design structure.", C3 P4 (hiz) "P-port output 4. Open-drain design structure.", C4 P5 (hiz) "P-port output 5. Open-drain design structure."

## TL4242DRJR
designator U?
Adjustable LED Driver, 4.5 to 42 V, -40 to 150 degC, 8-pin SON (DRJ8), Green (RoHS & no Sb/Br); Manufacturer: Texas Instruments; PartNumber: TL4242DRJR; Rating: Catalog; Vin(Max)(V): 42; Vin(Min)(V): 4.5; DatasheetVersion: SLVS641A; PackageVersion: 4205439/C; PackageReference: DRJ8-3000X2200TP; PackageDescription: 8-Pin Plastic Small Outline, Body 4 x 4 mm, Pitch 0.8 mm; Supplier 1: Digi-Key; Supplier Part Number 1: 296-23615-2-ND; Supplier 2: Digi-Key; Supplier Part Number 2: 296-23615-1-ND; Supplier 3: Digi-Key; Supplier Part Number 3: 296-23615-6-ND; Supplier 4: Farnell; Supplier Part Number 4: 1755246RL; Supplier 5: Farnell; Supplier Part Number 5: 1755246; Supplier 6: Newark; Supplier Part Number 6: 94M9959; Supplier 7: Mouser; Supplier Part Number 7: 595-TL4242DRJR; Eco-Plan: Green (RoHS & no Sb/Br); SubFamily: LED Driver; Mounting Technology: Surface Mount; Code_JEDEC: MO-229; ComponentLink1Description: Manufacturer URL; ComponentLink1URL: http://www.ti.com/; ComponentLink2Description: Datasheet; ComponentLink2URL: http://www.ti.com/general/docs/lit/getliterature.tsp?genericPartNumber=TL4242&fileType=pdf; ComponentLink3Description: Package Specification; ComponentLink3URL: http://www.ti.com/lit/ds/symlink/sn55hvd251.pdf
footprint TI-DRJ8-3000X2200TP_V (SON, 8-Leads, Body 4x4mm, Pitch 0.8mm, Thermal Pad 3x2.2mm)
pins: 1 PWM (in) "Pulse-width modulation input. If not used, connect to I.", 2 ST (oc) "Status output. Open-collector output. Connect to an external pullup resistor (RPULLUP >= 4.7 k ohm).", 3 GND (power) "Ground", 4 REF (in) "Reference input. Connect to a shunt resistor.", 5 D (in) "Status delay. To set status reaction delay, connect to GND with a capacitor. If no delay is needed, leave open.", 6 Q (power) "Output", 7 NC "No internal connection", 8 I (power) "Input. Connect directly to GND as close as possible to the device with a 100-nF ceramic capacitor.", 9 EP "The thermal pad must be soldered directly to the PCB. It may be connected to ground or left floating."

## TLC5904PZP
designator U?
8 / 16-Channel LED Driver, 4.5 to 5.5 V, -20 to 85 degC, 100-pin QFP (PZP100), Green (RoHS & no Sb/Br); Manufacturer: Texas Instruments; PartNumber: TLC5904PZP; Vin(Max)(V): 5.5; Vin(Min)(V): 4.5; DatasheetVersion: SLLS391; PackageVersion: 4146929/A; PackageReference: PZP100; PackageDescription: 100-Lead, Plastic Flat Pack, Body Size 14 x 14 mm, Pitch 0.5 mm; Supplier 1: Digi-Key; Supplier Part Number 1: 296-2378-ND; Supplier 2: Mouser; Supplier Part Number 2: 595-TLC5904PZP; Eco-Plan: Green (RoHS & no Sb/Br); SubFamily: LED Driver; Mounting Technology: Surface Mount; Code_JEDEC: MS-026; ComponentLink1Description: Manufacturer URL; ComponentLink1URL: http://www.ti.com/; ComponentLink2Description: Datasheet; ComponentLink2URL: http://www.ti.com/general/docs/lit/getliterature.tsp?genericPartNumber=TLC5904&fileType=pdf; ComponentLink3Description: Package Specification; ComponentLink3URL: http://www.ti.com/lit/ds/symlink/tlc5904.pdf
footprint TI-PZP100-5000X5000TP_N (QFP, 100-Leads, Body 14x14mm, Pitch 0.5mm, Thermal Pad 5x5mm, IPC Medium Density)
footprint TI-PZP100-5000X5000TP_L (QFP, 100-Leads, Body 14x14mm, Pitch 0.5mm, Thermal Pad 5x5mm, IPC High Density)
footprint TI-PZP100-5000X5000TP_M (QFP, 100-Leads, Body 14x14mm, Pitch 0.5mm, Thermal Pad 5x5mm, IPC Low Density)
part A pins: 46 MCENA (in) "OVM enable. When MCENA is low, the OVM latch is set to the default value. The comparison voltage in this status is 0.3V. When MCENA is high, writing to the OVM latch is enabled.", 47 DOUT7 (hiz) "Output for 8 bit parallel data with 3-state. These terminals are outputs to the shift register for gray scale data, brightness control, and OVM. The register selected is determined by RSEL0, 1.", 48 DOUT6 (hiz) "Output for 8 bit parallel data with 3-state. These terminals are outputs to the shift register for gray scale data, brightness control, and OVM. The register selected is determined by RSEL0, 1.", 49 DOUT5 (hiz) "Output for 8 bit parallel data with 3-state. These terminals are outputs to the shift register for gray scale data, brightness control, and OVM. The register selected is determined by RSEL0, 1.", 51 DOUT4 (hiz) "Output for 8 bit parallel data with 3-state. These terminals are outputs to the shift register for gray scale data, brightness control, and OVM. The register selected is determined by RSEL0, 1.", 52 DOUT3 (hiz) "Output for 8 bit parallel data with 3-state. These terminals are outputs to the shift register for gray scale data, brightness control, and OVM. The register selected is determined by RSEL0, 1.", 53 DOUT2 (hiz) "Output for 8 bit parallel data with 3-state. These terminals are outputs to the shift register for gray scale data, brightness control, and OVM. The register selected is determined by RSEL0, 1.", 54 DOUT1 (hiz) "Output for 8 bit parallel data with 3-state. These terminals are outputs to the shift register for gray scale data, brightness control, and OVM. The register selected is determined by RSEL0, 1.", 55 DOUT0 (hiz) "Output for 8 bit parallel data with 3-state. These terminals are outputs to the shift register for gray scale data, brightness control, and OVM. The register selected is determined by RSEL0, 1.", 61 XLATCH (in) "Latch, When XLATCH is high, data on the shift register goes through latch, When XLATCH is low, data is latched. Accordingly, if data on the shift register is changed during XLATCH high, this new value is latched (level (See Datasheet)", 63 XOE (in) "Data output enable. When XOE is low, DOUT0-7 terminals are drived. When XOE is high DOUT0-7 terminals go to a high-impedance state,", 64 XENABLE (in) "DCLK enable. When XENABLE is low, data transfer is enabled, Data transfer starts on the rising edge of DCLK after XENABLE goes low. During XENABLE high, no data is transferred.", 65 DCLK (in) "Clock input for data transfer.The input data is from DIN.All data on the shift register is selected by RSEL0 and RSEL1,and output data at DOUT is shifted by 1 bit synchronizing to DCLK. The data except for DOUT is (See Datasheet)", 66 RSEL0 (in) "Shift register data latch switching. When RSEL1 is low, gray scale data shift register latch is lected at RSEL0 low, and the brightness control register latch is selected at RSEL0 higiie, When RSEL1 is high, the OVM register (See Datasheet)", 67 RSEL1 (in) "Shift register data latch switching. When RSEL1 is low, gray scale data shift register latch is lected at RSEL0 low, and the brightness control register latch is selected at RSEL0 higiie, When RSEL1 is high, the OVM register (See Datasheet)", 70 DIN0 (in) "Input for 8 parallel data. These terminals are inputs to the shift register for gray scale data, brightness control, and OVM. The register selected is determined by RSEL0, 1.", 71 DIN1 (in) "Input for 8 parallel data. These terminals are inputs to the shift register for gray scale data, brightness control, and OVM. The register selected is determined by RSEL0, 1.", 72 DIN2 (in) "Input for 8 parallel data. These terminals are inputs to the shift register for gray scale data, brightness control, and OVM. The register selected is determined by RSEL0, 1.", 73 DIN3 (in) "Input for 8 parallel data. These terminals are inputs to the shift register for gray scale data, brightness control, and OVM. The register selected is determined by RSEL0, 1.", 74 DOMODE (in) "Timing select for data output. When DOMODE is low, DOUT0-7 is changed synchronizing to the rising edge of DCLK. When DOMODE is high, DOUT0-7 is changed synchronizing to the failing edge of DCLK", 76 DIN4 (in) "Input for 8 parallel data. These terminals are inputs to the shift register for gray scale data, brightness control, and OVM. The register selected is determined by RSEL0, 1.", 77 DIN5 (in) "Input for 8 parallel data. These terminals are inputs to the shift register for gray scale data, brightness control, and OVM. The register selected is determined by RSEL0, 1.", 78 DIN6 (in) "Input for 8 parallel data. These terminals are inputs to the shift register for gray scale data, brightness control, and OVM. The register selected is determined by RSEL0, 1.", 79 DIN7 (in) "Input for 8 parallel data. These terminals are inputs to the shift register for gray scale data, brightness control, and OVM. The register selected is determined by RSEL0, 1.", 83 MODE (in) "8/16 bits select. When MODE is high, 16 bits output is selected. When MODE is low, 8 bits output is selected.", 85 BCENA (in) "Brightness control enable. When BCENA is low, the brightness control latch is set to the default value. The output current value in this status is 100% of the setting value by an external resistor.The frequency dibision (See Datasheet)"
part B pins: 3 OUT4 (out) "Constant current output", 7 OUT5 (out) "Constant current output", 8 OUT6 (out) "Constant current output", 12 OUT7 (out) "Constant current output", 13 OUT8 (out) "Constant current output", 17 OUT9 (out) "Constant current output", 18 OUT10 (out) "Constant current output", 22 OUT11 (out) "Constant current output", 26 OUT12 (out) "Constant current output", 32 OUT13 (out) "Constant current output", 33 OUT14 (out) "Constant current output", 39 OUT15 (out) "Constant current output", 40 IREF (in) "Constant current value setting. LED current is set to the desired value by connecting an external resistor between IREF and GND. The 37 times current compares current across the external sink on the output terminal.", 42 WDCAP (in) "WDT (watchdog timer) detection time adjustment. WDT detection time is adjusted by connecting a capacitor between WDCAP and GND. When WDCAP is directly connected to GND, WDT function is disabled. In this case, WDTRG should be (See Datasheet)", 56 GSOUT (out) "Clock delay for gray scale. GSOUT is the output with the addition of delay time to GSCLK.", 57 BOUT (out) "Blank signal delay. BOUT is the output with addition of delay time to BLANK.", 58 TEST1 (power) "TEST. Facory test terminal. TEST1 and TEST2 should be connected to GND for nonnal operation.", 59 XDOWN2 (hiz) "OVM comparator output. XDOWN2 is conhgured as an open collector. It monitors terminal voltage when constant current output is tumed on. XDOWN2 goes low when this voltage is Iowerthan the level selected by OVM latch. When (See Datasheet)", 60 XDOWN1 (oc) "Shutdown, XDOWN1 is configured as open collector. It goes low when constant current output is shut down by WDT or TSD function", 62 WDTRG (in) "WDT (watchdog timer) trigger input. By applying a scan signal to this terminal, the scan signal can be monitored by turning the constant current output off to protect the LED from damage if the scan signal stops during the (See Datasheet)", 68 BLANK (in) "Blank(light off). When BLANK is high, all the output of the constant current driver is turned off. The constant current output, which the gray scale data is not zero, is turned on (LED on) synchronizing to the falling edge (See Datasheet)", 69 GSCLK (in) "Clock input for gray scale. The gray scale display is accomplished by lighting LEDs until the number of GSCLK counted is equal to data lanched", 75 TEST2 (power) "TEST. Facory test terminal. TEST1 and TEST2 should be connected to GND for nonnal operation.", 80 TSENA (in) "TSD(thennaI shutdown) enable, When TSENA is high, TSD is enabled. When TSENA is low, TSD is disabled.", 87 OUT0 (out) "Constant current output", 93 OUT1 (out) "Constant current output", 94 OUT2 (out) "Constant current output", 100 OUT3 (out) "Constant current output"
part C pins: 5 GNDLED (power) "LED driver ground (internally connected to GNDANA and GNDLOG)", 10 GNDLED (power) "LED driver ground (internally connected to GNDANA and GNDLOG)", 15 GNDLED (power) "LED driver ground (internally connected to GNDANA and GNDLOG)", 20 GNDLED (power) "LED driver ground (internally connected to GNDANA and GNDLOG)", 29 GNDLED (power) "LED driver ground (internally connected to GNDANA and GNDLOG)", 36 GNDLED (power) "LED driver ground (internally connected to GNDANA and GNDLOG)", 41 VCCLED (power) "LED driver power supply voltage", 43 GNDANA (power) "Analog ground (internally connected to GNDLOG and GNDLED)", 45 VCCANA (power) "Analog power supply voltage", 81 VCCLOG (power) "Logic power supply voltage", 84 GNDLOG (power) "Logic ground (internally connected to GNDANA and GNDLED)", 90 GNDLED (power) "LED driver ground (internally connected to GNDANA and GNDLOG)", 96 GNDLED (power) "LED driver ground (internally connected to GNDANA and GNDLOG)", 101 EP "Heat sink pad. This pad is connected to the lowest potential IC or themlal layer."
part D pins: 1 NC "No internal connection", 2 NC "No internal connection", 4 NC "No internal connection", 6 NC "No internal connection", 9 NC "No internal connection", 11 NC "No internal connection", 14 NC "No internal connection", 16 NC "No internal connection", 19 NC "No internal connection", 21 NC "No internal connection", 23 NC "No internal connection", 24 NC "No internal connection", 25 NC "No internal connection", 27 NC "No internal connection", 28 NC "No internal connection", 30 NC "No internal connection", 31 NC "No internal connection", 34 NC "No internal connection", 35 NC "No internal connection", 37 NC "No internal connection", 38 NC "No internal connection", 44 NC "No internal connection", 50 NC "No internal connection", 82 NC "No internal connection", 86 NC "No internal connection", 88 NC "No internal connection", 89 NC "No internal connection", 91 NC "No internal connection", 92 NC "No internal connection", 95 NC "No internal connection", 97 NC "No internal connection", 98 NC "No internal connection", 99 NC "No internal connection"